# Altium schematic symbol library PCBFeatures.SchLib: 2 symbols
Pins are listed as number, name and electrical type; pins without a type are passive.

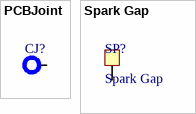
[diagram p0: symbols PCBJoint to Spark Gap]

## PCBJoint
designator CJ?, comment PCBJointCastellationJoint  (value not drawn)  (no BOM)
Pad for soldering a castellated PCB edge. Easy way to join two PCBs together.
footprint PCBJoint
pins: 1

## Spark Gap
designator SP?  (no BOM)
Open square pad for spark gapping
footprint SparkGap
pins: 1